# EAGLE library part TEENSEY3.2 (library PJRC)
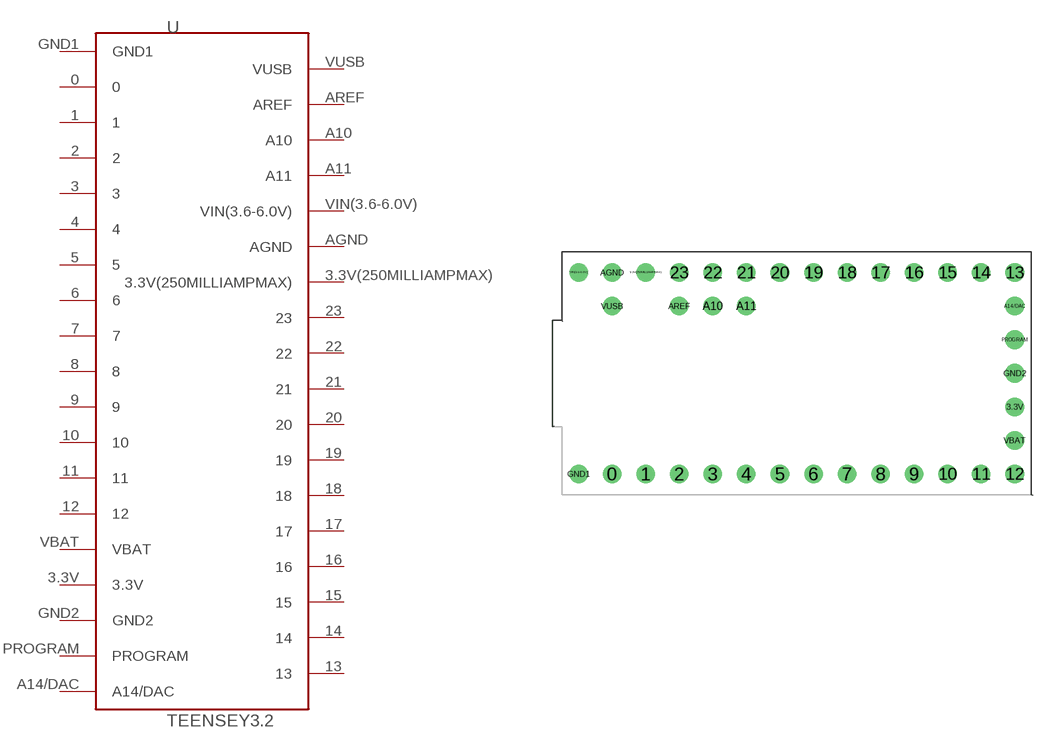
[diagram p0: symbol with the pads of TEENSEY3.2; footprint TEENSEY3.2]

Designator prefix -

## TEENSEY3.2  [TEENSEY3.2]
0  0
1  1
2  2
3  3
3.3V  3.3V
3.3V(250MILLIAMPMAX)  3.3V(250MILLIAMPMAX)
4  4
5  5
6  6
7  7
8  8
9  9
10  10
11  11
12  12
13  13
14  14
15  15
16  16
17  17
18  18
19  19
20  20
21  21
22  22
23  23
A10  A10
A11  A11
A14/DAC  A14/DAC
AGND  AGND
AREF  AREF
GND1  GND1
GND2  GND2
PROGRAM  PROGRAM
VBAT  VBAT
VIN(3.6-6.0V)  VIN(3.6-6.0V)
VUSB  VUSB

## Footprint TEENSEY3.2 (pad centres in mm)
drill 0.9: 0 -13.97,-7.62; 1 -11.43,-7.62; 2 -8.89,-7.62; 3 -6.35,-7.62; 3.3V 16.51,-2.54; 3.3V(250MILLIAMPMAX) -11.43,7.62; 4 -3.81,-7.62; 5 -1.27,-7.62; 6 1.27,-7.62; 7 3.81,-7.62; 8 6.35,-7.62; 9 8.89,-7.62; 10 11.43,-7.62; 11 13.97,-7.62; 12 16.51,-7.62; 13 16.51,7.62; 14 13.97,7.62; 15 11.43,7.62; 16 8.89,7.62; 17 6.35,7.62; 18 3.81,7.62; 19 1.27,7.62; 20 -1.27,7.62; 21 -3.81,7.62; 22 -6.35,7.62; 23 -8.89,7.62; A10 -6.35,5.08; A11 -3.81,5.08; A14/DAC 16.51,5.08; AGND -13.97,7.62; AREF -8.89,5.08; GND1 -16.51,-7.62; GND2 16.51,0; PROGRAM 16.51,2.54; VBAT 16.51,-5.08; VIN(3.6-6.0V) -16.51,7.62; VUSB -13.97,5.08